# Altium integrated library Maxim Peripheral USB Controller.IntLib: 1 symbol
Pins are listed as number, name and electrical type; pins without a type are passive.

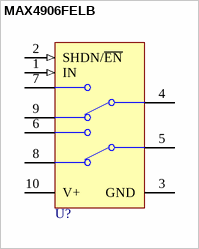
[diagram p0: symbol MAX4906FELB]

## MAX4906FELB
designator U?
High-/Full-Speed USB 2.0 Switch; Published: 30-May-2008; DatasheetVersion: Rev 2; 1/07; PackageVersion: Rev B, 21-0164; PackageReference: L1022-1; Publisher: Altium Limited; PackageDescription: 10-Pin Micro Dual Flat No-Lead, 0.4 mm Pitch (L1022-1); ComponentLink1Description: Manufacturer Link; ComponentLink1URL: http://www.maxim-ic.com/; ComponentLink2Description: Datasheet; ComponentLink2URL: http://datasheets.maxim-ic.com/en/ds/MAX4906-MAX4907F.pdf
footprint L1022-1_N (SON, 10-Leads, Body 2x2 mm, Pitch 0.4mm, IPC Medium Density)
footprint L1022-1_L (SON, 10-Leads, Body 2x2 mm, Pitch 0.4mm, IPC High Density)
footprint L1022-1_M (SON, 10-Leads, Body 2x2 mm, Pitch 0.4mm, IPC Low Density)
pins: 1 IN (in), 2 SHDN/~{EN} (in), 3 GND (power), 4 COM1, 5 COM2, 6 NO2, 7 NO1, 8 NC2, 9 NC1, 10 V+ (power)